# Altium schematic symbol library TestPoints.SchLib: 1 symbol
Pins are listed as number, name and electrical type; pins without a type are passive.

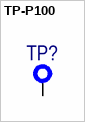
[diagram p0: symbol TP-P100]

## TP-P100
designator TP?  (value not drawn)  (no BOM)
footprint TP-P100 (Test Point for pogo pin P100 series)
pins: 1